# Altium integrated library DiWo_Label_test.IntLib: 8 symbols
Pins are listed as number, name and electrical type; pins without a type are passive.

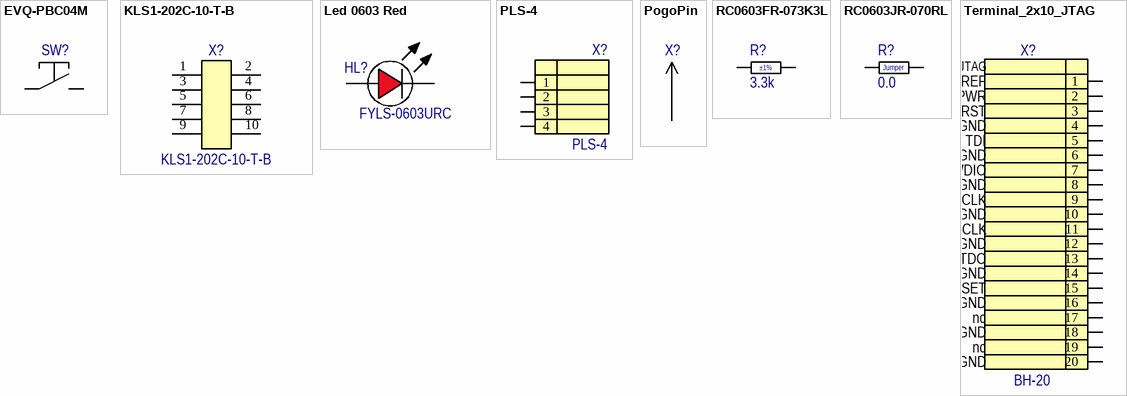
[diagram p0: symbols EVQ-PBC04M to Terminal_2x10_JTAG]

## EVQ-PBC04M
designator SW?  (value not drawn)
SWITCH TACTILE SPST-NO 0.02A 15V; Manufacturer: Panasonic Electronic Components; Switch Function: Off-Mom; Contact Rating @ Voltage: 0.02A @ 15VDC; Actuator Type: Standard; Actuator Height off PCB, Vertical: 4.30mm; Actuator Orientation: Top Actuated; Outline: 6.00mm x 6.00mm; Illumination: Non-Illuminated; Operating Force: 100gf; Part Number: EVQ-PBC04M; ﻿ComponentLink1URL: https://www3.panasonic.biz/ac/e_download/control/switch/light-touch/catalog/sw_lt_eng_5n.pdf; ComponentLink1Description: Datasheet; Supplier 1: Digikey; Supplier Part Number 1: P8013S-ND; Image: //media.digikey.com/photos/Panasonic%20Photos/EVQ-PBC04M,%20EVQ-PBD04M,%20EVQ-PBE04M,%20EVQ-PBG04M.jpg; Packaging: Bulk; Series: EVQPB; Part Status: Active; Circuit: SPST-NO; Mounting Type: Through Hole; Actuator Length, Right Angle: -; Termination Style: PC Pin; Illumination Type, Color: -; Illumination Voltage (Nominal): -; Ingress Protection: -; Features: Grounding Pin
footprint TACT SWITCH 6MM SMD
pins: 1, 2

## KLS1-202C-10-T-B
designator X?
5*2 pin 	1.27x1.27mm Pitch Box Header Connector Height 4.9mm; Manufacturer: KLS; Number of Positions: 5; Pitch: 0.050" (1.27mm); Part Number: KLS1-202C-10-T-B; ComponentLink1URL: https://www.klsele.com/admin/product_upload/20200628111111L-KLS1-202CE.pdf; ComponentLink1Description: Datasheet; Number of Rows: 2; Mounting Type: 0.050" (1.27mm); Local Supplier: https://www.elitan.ru/price/item16066919
footprint KLS1-202C-10-T-B
pins: 1, 2, 3, 4, 5, 6, 7, 8, 9, 10

## Led 0603 Red
designator HL?, comment FYLS-0603URC
Led 0603 Red; Manufacturer: FORYARD; Points: 2; Part Number: FYLS-0603URC; ComponentLink1Description: Datasheet; Color: Led 0603 Red; ComponentLink1Description: Elitan; ComponentLink1URL: https://www.elitan.ru/pdf/1/4/8/3/0/14830587.pdf
footprint LED_0603_RED
pins: A, C
3 alternate drawings of the same symbol

## PLS-4
designator X?
Part Number: PLS-4; Series: PLS
footprint PLS-4
pins: 1, 2, 3, 4

## PogoPin
designator X?
footprint POGO-PIN 1,02*15,85
pins: 1

## RC0603FR-073K3L
designator R?, comment 3.3k  Tolerance: ±1%
RES SMD 3.3K OHM 1% 1/10W 0603; Part Number: RC0603FR-073K3L; Manufacturer: Yageo; Points: 2; ValueGOST: 3.3кОм; Unit Price (USD): 0.10000; Power (Watts): 0.1W, 1/10W; Temperature Coefficient: ±100ppm/°C; ComponentLink1URL: http://www.yageo.com/documents/recent/PYu-RC_Grou; ComponentLink1Description: Datasheet; Supplier 1: Digikey; Supplier Part Number 1: 311-3.30KHRCT-ND; Value: 3.3k; Package / Case: 0603 (1608 Metric); Series: RC; Part Status: Active; Composition: Thick Film; Features: Moisture Resistant; Operating Temperature: -55°C ~ 155°C; Supplier Device Package: 0603; Size / Dimension: 0.063" L x 0.031" W (1.60mm x 0.80mm); Height - Seated (Max): 0.022" (0.55mm); Image: //media.digikey.com/Renders/Yageo%20Renders/0603-(1608-Metric).jpg; Part Type: Resistor
footprint R0603 (1608 Metric) N
pins: 1, 2

## RC0603JR-070RL
designator R?, comment 0.0  Tolerance: Jumper
RES SMD 0.0OHM JUMPER 1/10W 0603; Part Number: RC0603JR-070RL; Manufacturer: Yageo; Points: 2; Unit Price (USD): 0.10000; Power (Watts): 0.1W, 1/10W; ComponentLink1URL: http://www.yageo.com/documents/recent/PYu-RC_Grou; ComponentLink1Description: Datasheet; Supplier 1: Digikey; Supplier Part Number 1: 311-0.0GRCT-ND; Value: 0.0; ValueGOST: 0.0; Package / Case: 0603 (1608 Metric); Series: RC; Part Status: Active; Composition: Thick Film; Features: Moisture Resistant; Temperature Coefficient: -; Operating Temperature: -55°C ~ 155°C; Supplier Device Package: 0603; Size / Dimension: 0.063" L x 0.031" W (1.60mm x 0.80mm); Height - Seated (Max): 0.022" (0.55mm); Image: //media.digikey.com/Renders/Yageo%20Renders/0603-(1608-Metric).jpg; Part Type: Resistor
footprint R0603 (1608 Metric) N
pins: 1, 2

## Terminal_2x10_JTAG
designator X?, comment BH-20
Part Number: BH-20
footprint BH-20
footprint BH-20-H (Horisontal)
pins: 1, 2, 3, 4, 5, 6, 7, 8, 9, 10, 11, 12, 13, 14, 15, 16, 17, 18, 19, 20
text: JTAG; VCC_REF; VCC_PWR; TRST; GND; TDI; TMS/SWDIO; TCLK/SWCLK; RTCLK; SWO/TDO; RESET; nc